# Altium footprint library brake.PcbLib: 3 footprints
Each footprint in its own frame and in the unit in brackets; x right, y up, seen from the top. Pads: shape width x height; smd on the part's side, far side on the other; paste and mask are expansions set on the pad; w line width, h text height; cw(c..) or ccw(c..) is an arc to the next point about the centre after c.
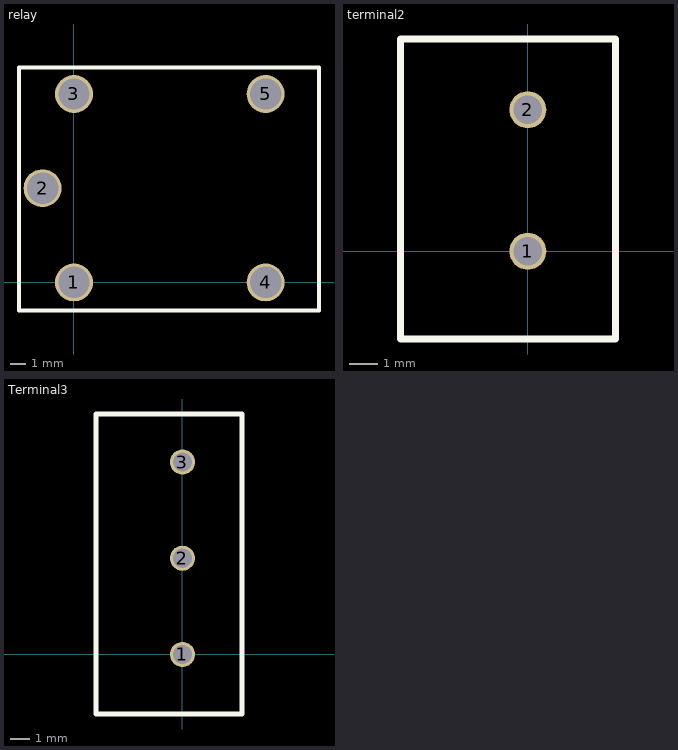
[diagram p0: the footprints below, top view; thin cyan lines are the x and y axes]

## relay [mm]
pads (5):
  round 2.413 hole 2: 1(0,0) 2(-2,6) 3(0,12) 4(12.2,0) 5(12.2,12)
Top Overlay:
  lines w0.254: -3.5,-1.8 15.6,-1.8 15.6,13.7 -3.5,13.7 -3.5,-1.8

## terminal2 [mm]
pads (2):
  round 1.305 hole 1: 1(0,0) 2(0,5)
Top Overlay:
  lines w0.254: -4.5,-3.1 -4.5,7.5 3.1,7.5 3.1,-3.1 -4.5,-3.1

## Terminal3 [mm]
pads (3):
  round 1.305 hole 1: 1(0,0) 2(0,5) 3(0,10)
Top Overlay:
  lines w0.254: -4.5,-3.1 -4.5,12.5 3.1,12.5 3.1,-3.1 -4.5,-3.1